# Altium integrated library NSC Logic Clock Clock Support.IntLib: 83 symbols (part 1 of 2)
Pins are listed as number, name and electrical type; pins without a type are passive.

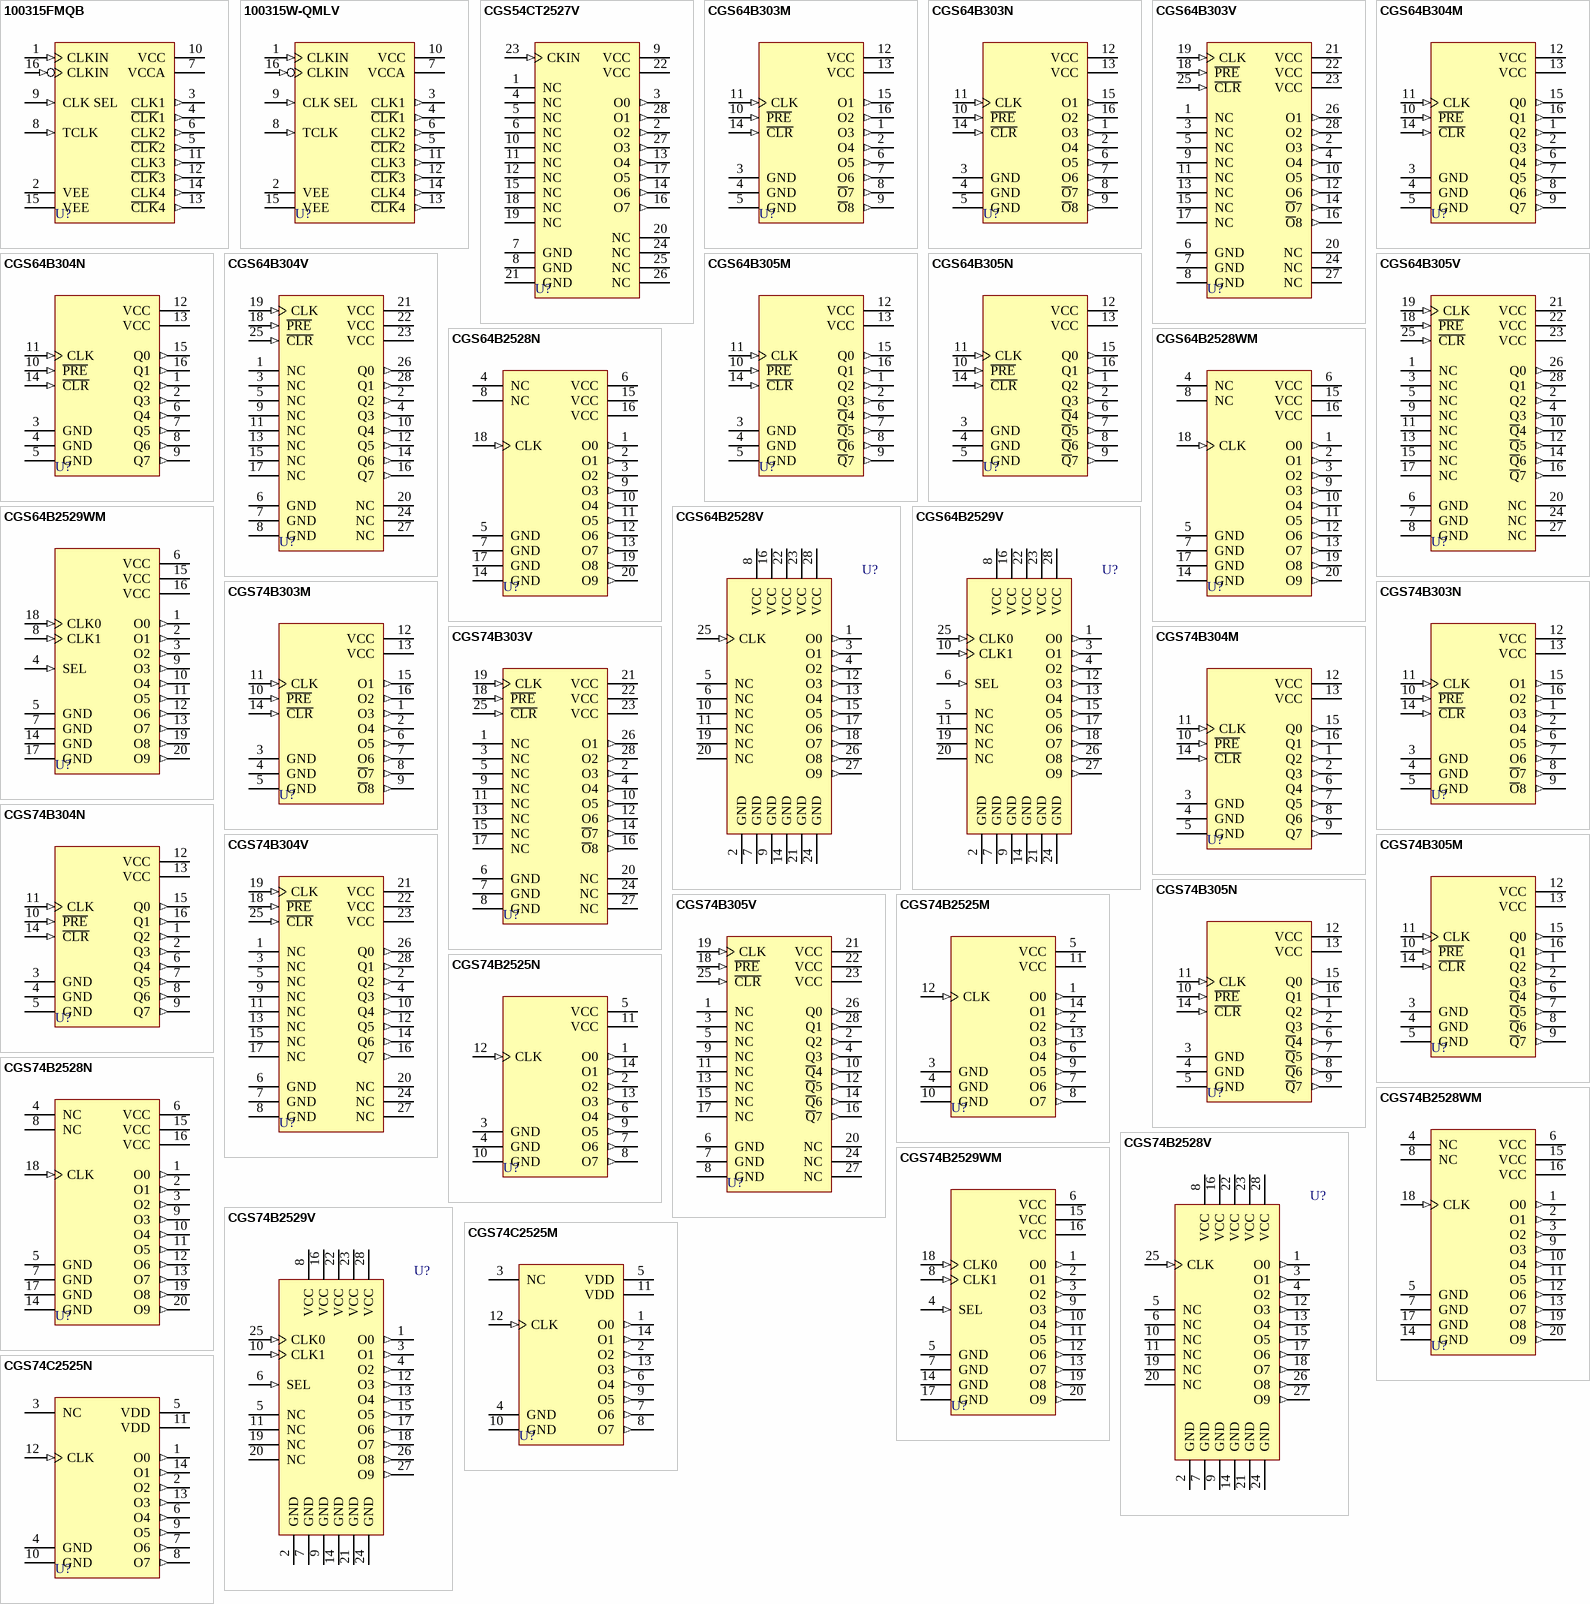
[diagram p0: symbols 100315FMQB to CGS74C2525N]

## 100315FMQB
designator U?
Low-Skew Quad Clock Driver; Published: 15-Apr-2002; LatestRevisionDate: 06-Jun-2005; LatestRevisionNote: Stylized 3D Model Added.; DatasheetVersion: Aug-1998; PackageVersion: 2000; PackageReference: W16A; Publisher: Altium Limited; PackageDescription: DFP; 16 Leads; Body 9.9 x 7.6 mm (LxW max); Pitch 1.27 mm; ComponentLink1Description: Manufacturer Link; ComponentLink1URL: http://www.national.com/; ComponentLink2Description: Datasheet; ComponentLink2URL: http://www.national.com/ds.cgi/10/100315.pdf; ComponentLink3Description: URL Link1; ComponentLink3URL: http://www.national.com/pf/10/100315.html
footprint W16A (DFP; 16 Leads; Body 9.9 x 7.6 mm (LxW max); Pitch 1.27 mm)
3D model W16A (DFP; 16 Leads; Body 9.9 x 7.6 mm (LxW max); Pitch 1.27 mm)
pins: 1 CLKIN (in), 2 VEE (power), 3 CLK1 (out), 4 ~{CLK}1 (out), 5 ~{CLK}2 (out), 6 CLK2 (out), 7 VCCA (power), 8 TCLK (in), 9 CLK SEL (in), 10 VCC (power), 11 CLK3 (out), 12 ~{CLK}3 (out), 13 ~{CLK}4 (out), 14 CLK4 (out), 15 VEE (power), 16 CLKIN (in)

## 100315W-QMLV
designator U?
Low-Skew Quad Clock Driver; Published: 15-Apr-2002; LatestRevisionDate: 06-Jun-2005; LatestRevisionNote: Stylized 3D Model Added.; DatasheetVersion: Aug-1998; PackageVersion: 2000; PackageReference: W16A; Publisher: Altium Limited; PackageDescription: DFP; 16 Leads; Body 9.9 x 7.6 mm (LxW max); Pitch 1.27 mm; ComponentLink1Description: Manufacturer Link; ComponentLink1URL: http://www.national.com/; ComponentLink2Description: Datasheet; ComponentLink2URL: http://www.national.com/ds.cgi/10/100315.pdf; ComponentLink3Description: URL Link1; ComponentLink3URL: http://www.national.com/pf/10/100315.html
footprint W16A (DFP; 16 Leads; Body 9.9 x 7.6 mm (LxW max); Pitch 1.27 mm)
3D model W16A (DFP; 16 Leads; Body 9.9 x 7.6 mm (LxW max); Pitch 1.27 mm)
pins: 1 CLKIN (in), 2 VEE (power), 3 CLK1 (out), 4 ~{CLK}1 (out), 5 ~{CLK}2 (out), 6 CLK2 (out), 7 VCCA (power), 8 TCLK (in), 9 CLK SEL (in), 10 VCC (power), 11 CLK3 (out), 12 ~{CLK}3 (out), 13 ~{CLK}4 (out), 14 CLK4 (out), 15 VEE (power), 16 CLKIN (in)

## CGS54CT2527V
designator U?
1-to-8 Minimum Skew (450 ps) Clock Driver; Published: 15-Apr-2002; LatestRevisionDate: 13-Apr-2006; LatestRevisionNote: IPC-7351 Footprint Added.; DatasheetVersion: Apr-1993; PackageVersion: 2000; PackageReference: V28A; Publisher: Altium Limited; PackageDescription: 28-Pin Leaded Chip Carrier 1.27 mm Pitch; Code_IPC: PLCC-28; ComponentLink1Description: Manufacturer Link; ComponentLink1URL: http://www.national.com/
footprint V28A_N (Leaded Chip Carrier, 28-Leads, Body 11.5x11.5mm, Pitch 1.27mm, IPC Medium Density)
footprint V28A_L (Leaded Chip Carrier, 28-Leads, Body 11.5x11.5mm, Pitch 1.27mm, IPC High Density)
footprint V28A_M (Leaded Chip Carrier, 28-Leads, Body 11.5x11.5mm, Pitch 1.27mm, IPC Low Density)
3D model CGS54CT2527-V28A (28-Pin Leaded Chip Carrier 1.27 mm Pitch)
pins: 1 NC, 2 O2 (out), 3 O0 (out), 4 NC, 5 NC, 6 NC, 7 GND (power), 8 GND (power), 9 VCC (power), 10 NC, 11 NC, 12 NC, 13 O4 (out), 14 O6 (out), 15 NC, 16 O7 (out), 17 O5 (out), 18 NC, 19 NC, 20 NC, 21 GND (power), 22 VCC (power), 23 CKIN (in), 24 NC, 25 NC, 26 NC, 27 O3 (out), 28 O1 (out)

## CGS64B303M
designator U?
Octal Divide-by-2 Skew Clock Driver; ComponentAvailability: Obsolete; Published: 15-Apr-2002; LatestRevisionDate: 13-Apr-2006; LatestRevisionNote: IPC-7351 Footprint Added.; DatasheetVersion: Jul-1993; PackageVersion: 2000; PackageReference: M16A; Publisher: Altium Limited; PackageDescription: 16-Pin Small Outline Integrated Circuit 1.27 mm Pitch; Code_IPC: SOIC127P600-16; ComponentLink1Description: Manufacturer Link; ComponentLink1URL: http://www.national.com/; ComponentLink2Description: Discontinuation Notice; ComponentLink2URL: http://www.national.com/obs/obsolescence.txt
footprint M16A_N (SOIC, 16-Leads, Body 9.9x3.9mm, Pitch 1.27mm, IPC Medium Density)
footprint M16A_L (SOIC, 16-Leads, Body 9.9x3.9mm, Pitch 1.27mm, IPC High Density)
footprint M16A_M (SOIC, 16-Leads, Body 9.9x3.9mm, Pitch 1.27mm, IPC Low Density)
3D model M16A (16-Pin Small Outline Integrated Circuit 1.27 mm Pitch)
pins: 1 O3 (out), 2 O4 (out), 3 GND (power), 4 GND (power), 5 GND (power), 6 O5 (out), 7 O6 (out), 8 ~{O}7 (out), 9 ~{O}8 (out), 10 ~{PRE} (in), 11 CLK (in), 12 VCC (power), 13 VCC (power), 14 ~{CLR} (in), 15 O1 (out), 16 O2 (out)

## CGS64B303N
designator U?
Octal Divide-by-2 Skew Clock Driver; ComponentAvailability: Obsolete; Published: 15-Apr-2002; LatestRevisionDate: 06-Jun-2005; LatestRevisionNote: Stylized 3D Model Added.; DatasheetVersion: Jul-1993; PackageVersion: 2000; PackageReference: N16E; Publisher: Altium Limited; PackageDescription: DIP; 16 Leads; Row Spacing 7.62 mm; Pitch 2.54 mm; ComponentLink1Description: Manufacturer Link; ComponentLink1URL: http://www.national.com/; ComponentLink2Description: Discontinuation Notice; ComponentLink2URL: http://www.national.com/obs/obsolescence.txt
footprint N16E (DIP; 16 Leads; Row Spacing 7.62 mm; Pitch 2.54 mm)
3D model N16E (DIP; 16 Leads; Row Spacing 7.62 mm; Pitch 2.54 mm)
pins: 1 O3 (out), 2 O4 (out), 3 GND (power), 4 GND (power), 5 GND (power), 6 O5 (out), 7 O6 (out), 8 ~{O}7 (out), 9 ~{O}8 (out), 10 ~{PRE} (in), 11 CLK (in), 12 VCC (power), 13 VCC (power), 14 ~{CLR} (in), 15 O1 (out), 16 O2 (out)

## CGS64B303V
designator U?
Octal Divide-by-2 Skew Clock Driver; ComponentAvailability: Obsolete; Published: 15-Apr-2002; LatestRevisionDate: 13-Apr-2006; LatestRevisionNote: IPC-7351 Footprint Added.; DatasheetVersion: Jul-1993; PackageVersion: 2000; PackageReference: V28A; Publisher: Altium Limited; PackageDescription: 28-Pin Leaded Chip Carrier 1.27 mm Pitch; Code_IPC: PLCC-28; ComponentLink1Description: Manufacturer Link; ComponentLink1URL: http://www.national.com/; ComponentLink2Description: Discontinuation Notice; ComponentLink2URL: http://www.national.com/obs/obsolescence.txt
footprint V28A_N (Leaded Chip Carrier, 28-Leads, Body 11.5x11.5mm, Pitch 1.27mm, IPC Medium Density)
footprint V28A_L (Leaded Chip Carrier, 28-Leads, Body 11.5x11.5mm, Pitch 1.27mm, IPC High Density)
footprint V28A_M (Leaded Chip Carrier, 28-Leads, Body 11.5x11.5mm, Pitch 1.27mm, IPC Low Density)
3D model CGS64B303-V28A (28-Pin Leaded Chip Carrier 1.27 mm Pitch)
pins: 1 NC, 2 O3 (out), 3 NC, 4 O4 (out), 5 NC, 6 GND (power), 7 GND (power), 8 GND (power), 9 NC, 10 O5 (out), 11 NC, 12 O6 (out), 13 NC, 14 ~{O}7 (out), 15 NC, 16 ~{O}8 (out), 17 NC, 18 ~{PRE} (in), 19 CLK (in), 20 NC, 21 VCC (power), 22 VCC (power), 23 VCC (power), 24 NC, 25 ~{CLR} (in), 26 O1 (out), 27 NC, 28 O2 (out)

## CGS64B304M
designator U?
Octal Divide-by-2 Skew Clock Driver; ComponentAvailability: Obsolete; Published: 15-Apr-2002; LatestRevisionDate: 13-Apr-2006; LatestRevisionNote: IPC-7351 Footprint Added.; DatasheetVersion: 1995; PackageVersion: 2000; PackageReference: M16A; Publisher: Altium Limited; PackageDescription: 16-Pin Small Outline Integrated Circuit 1.27 mm Pitch; Code_IPC: SOIC127P600-16; ComponentLink1Description: Manufacturer Link; ComponentLink1URL: http://www.national.com/; ComponentLink2Description: Discontinuation Notice; ComponentLink2URL: http://www.national.com/obs/obsolescence.txt
footprint M16A_N (SOIC, 16-Leads, Body 9.9x3.9mm, Pitch 1.27mm, IPC Medium Density)
footprint M16A_L (SOIC, 16-Leads, Body 9.9x3.9mm, Pitch 1.27mm, IPC High Density)
footprint M16A_M (SOIC, 16-Leads, Body 9.9x3.9mm, Pitch 1.27mm, IPC Low Density)
3D model M16A (16-Pin Small Outline Integrated Circuit 1.27 mm Pitch)
pins: 1 Q2 (out), 2 Q3 (out), 3 GND (power), 4 GND (power), 5 GND (power), 6 Q4 (out), 7 Q5 (out), 8 Q6 (out), 9 Q7 (out), 10 ~{PRE} (in), 11 CLK (in), 12 VCC (power), 13 VCC (power), 14 ~{CLR} (in), 15 Q0 (out), 16 Q1 (out)

## CGS64B304N
designator U?
Octal Divide-by-2 Skew Clock Driver; ComponentAvailability: Obsolete; Published: 15-Apr-2002; LatestRevisionDate: 06-Jun-2005; LatestRevisionNote: Stylized 3D Model Added.; DatasheetVersion: 1995; PackageVersion: 2000; PackageReference: N16E; Publisher: Altium Limited; PackageDescription: DIP; 16 Leads; Row Spacing 7.62 mm; Pitch 2.54 mm; ComponentLink1Description: Manufacturer Link; ComponentLink1URL: http://www.national.com/; ComponentLink2Description: Discontinuation Notice; ComponentLink2URL: http://www.national.com/obs/obsolescence.txt
footprint N16E (DIP; 16 Leads; Row Spacing 7.62 mm; Pitch 2.54 mm)
3D model N16E (DIP; 16 Leads; Row Spacing 7.62 mm; Pitch 2.54 mm)
pins: 1 Q2 (out), 2 Q3 (out), 3 GND (power), 4 GND (power), 5 GND (power), 6 Q4 (out), 7 Q5 (out), 8 Q6 (out), 9 Q7 (out), 10 ~{PRE} (in), 11 CLK (in), 12 VCC (power), 13 VCC (power), 14 ~{CLR} (in), 15 Q0 (out), 16 Q1 (out)

## CGS64B304V
designator U?
Octal Divide-by-2 Skew Clock Driver; ComponentAvailability: Obsolete; Published: 15-Apr-2002; LatestRevisionDate: 13-Apr-2006; LatestRevisionNote: IPC-7351 Footprint Added.; DatasheetVersion: 1995; PackageVersion: 2000; PackageReference: V28A; Publisher: Altium Limited; PackageDescription: 28-Pin Leaded Chip Carrier 1.27 mm Pitch; Code_IPC: PLCC-28; ComponentLink1Description: Manufacturer Link; ComponentLink1URL: http://www.national.com/; ComponentLink2Description: Discontinuation Notice; ComponentLink2URL: http://www.national.com/obs/obsolescence.txt
footprint V28A_N (Leaded Chip Carrier, 28-Leads, Body 11.5x11.5mm, Pitch 1.27mm, IPC Medium Density)
footprint V28A_L (Leaded Chip Carrier, 28-Leads, Body 11.5x11.5mm, Pitch 1.27mm, IPC High Density)
footprint V28A_M (Leaded Chip Carrier, 28-Leads, Body 11.5x11.5mm, Pitch 1.27mm, IPC Low Density)
3D model CGS64B304-V28A (28-Pin Leaded Chip Carrier 1.27 mm Pitch)
pins: 1 NC, 2 Q2 (out), 3 NC, 4 Q3 (out), 5 NC, 6 GND (power), 7 GND (power), 8 GND (power), 9 NC, 10 Q4 (out), 11 NC, 12 Q5 (out), 13 NC, 14 Q6 (out), 15 NC, 16 Q7 (out), 17 NC, 18 ~{PRE} (in), 19 CLK (in), 20 NC, 21 VCC (power), 22 VCC (power), 23 VCC (power), 24 NC, 25 ~{CLR} (in), 26 Q0 (out), 27 NC, 28 Q1 (out)

## CGS64B305M
designator U?
Octal Divide-by-2 Skew Clock Driver; ComponentAvailability: Obsolete; Published: 15-Apr-2002; LatestRevisionDate: 13-Apr-2006; LatestRevisionNote: IPC-7351 Footprint Added.; DatasheetVersion: 1995; PackageVersion: 2000; PackageReference: M16A; Publisher: Altium Limited; PackageDescription: 16-Pin Small Outline Integrated Circuit 1.27 mm Pitch; Code_IPC: SOIC127P600-16; ComponentLink1Description: Manufacturer Link; ComponentLink1URL: http://www.national.com/; ComponentLink2Description: Discontinuation Notice; ComponentLink2URL: http://www.national.com/obs/obsolescence.txt
footprint M16A_N (SOIC, 16-Leads, Body 9.9x3.9mm, Pitch 1.27mm, IPC Medium Density)
footprint M16A_L (SOIC, 16-Leads, Body 9.9x3.9mm, Pitch 1.27mm, IPC High Density)
footprint M16A_M (SOIC, 16-Leads, Body 9.9x3.9mm, Pitch 1.27mm, IPC Low Density)
3D model M16A (16-Pin Small Outline Integrated Circuit 1.27 mm Pitch)
pins: 1 Q2 (out), 2 Q3 (out), 3 GND (power), 4 GND (power), 5 GND (power), 6 ~{Q}4 (out), 7 ~{Q}5 (out), 8 ~{Q}6 (out), 9 ~{Q}7 (out), 10 ~{PRE} (in), 11 CLK (in), 12 VCC (power), 13 VCC (power), 14 ~{CLR} (in), 15 Q0 (out), 16 Q1 (out)

## CGS64B305N
designator U?
Octal Divide-by-2 Skew Clock Driver; ComponentAvailability: Obsolete; Published: 15-Apr-2002; LatestRevisionDate: 06-Jun-2005; LatestRevisionNote: Stylized 3D Model Added.; DatasheetVersion: 1995; PackageVersion: 2000; PackageReference: N16E; Publisher: Altium Limited; PackageDescription: DIP; 16 Leads; Row Spacing 7.62 mm; Pitch 2.54 mm; ComponentLink1Description: Manufacturer Link; ComponentLink1URL: http://www.national.com/; ComponentLink2Description: Discontinuation Notice; ComponentLink2URL: http://www.national.com/obs/obsolescence.txt
footprint N16E (DIP; 16 Leads; Row Spacing 7.62 mm; Pitch 2.54 mm)
3D model N16E (DIP; 16 Leads; Row Spacing 7.62 mm; Pitch 2.54 mm)
pins: 1 Q2 (out), 2 Q3 (out), 3 GND (power), 4 GND (power), 5 GND (power), 6 ~{Q}4 (out), 7 ~{Q}5 (out), 8 ~{Q}6 (out), 9 ~{Q}7 (out), 10 ~{PRE} (in), 11 CLK (in), 12 VCC (power), 13 VCC (power), 14 ~{CLR} (in), 15 Q0 (out), 16 Q1 (out)

## CGS64B305V
designator U?
Octal Divide-by-2 Skew Clock Driver; ComponentAvailability: Obsolete; Published: 15-Apr-2002; LatestRevisionDate: 13-Apr-2006; LatestRevisionNote: IPC-7351 Footprint Added.; DatasheetVersion: 1995; PackageVersion: 2000; PackageReference: V28A; Publisher: Altium Limited; PackageDescription: 28-Pin Leaded Chip Carrier 1.27 mm Pitch; Code_IPC: PLCC-28; ComponentLink1Description: Manufacturer Link; ComponentLink1URL: http://www.national.com/; ComponentLink2Description: Discontinuation Notice; ComponentLink2URL: http://www.national.com/obs/obsolescence.txt
footprint V28A_N (Leaded Chip Carrier, 28-Leads, Body 11.5x11.5mm, Pitch 1.27mm, IPC Medium Density)
footprint V28A_L (Leaded Chip Carrier, 28-Leads, Body 11.5x11.5mm, Pitch 1.27mm, IPC High Density)
footprint V28A_M (Leaded Chip Carrier, 28-Leads, Body 11.5x11.5mm, Pitch 1.27mm, IPC Low Density)
3D model CGS64B305-V28A (28-Pin Leaded Chip Carrier 1.27 mm Pitch)
pins: 1 NC, 2 Q2 (out), 3 NC, 4 Q3 (out), 5 NC, 6 GND (power), 7 GND (power), 8 GND (power), 9 NC, 10 ~{Q}4 (out), 11 NC, 12 ~{Q}5 (out), 13 NC, 14 ~{Q}6 (out), 15 NC, 16 ~{Q}7 (out), 17 NC, 18 ~{PRE} (in), 19 CLK (in), 20 NC, 21 VCC (power), 22 VCC (power), 23 VCC (power), 24 NC, 25 ~{CLR} (in), 26 Q0 (out), 27 NC, 28 Q1 (out)

## CGS64B2528N
designator U?
450 ps 1 to 10 Minimum Skew Clock Driver; ComponentAvailability: Obsolete; Published: 15-Apr-2002; LatestRevisionDate: 06-Jun-2005; LatestRevisionNote: Stylized 3D Model Added.; DatasheetVersion: Sep-1995; PackageVersion: 2000; PackageReference: N20A; Publisher: Altium Limited; PackageDescription: DIP; 20 Leads; Row Spacing 7.62 mm; Pitch 2.54 mm; Code_JEDEC: MS-001-AD; ComponentLink1Description: Manufacturer Link; ComponentLink1URL: http://www.national.com/; ComponentLink2Description: Discontinuation Notice; ComponentLink2URL: http://www.national.com/obs/obsolescence.txt
footprint N20A (DIP; 20 Leads; Row Spacing 7.62 mm; Pitch 2.54 mm)
3D model N20A (DIP; 20 Leads; Row Spacing 7.62 mm; Pitch 2.54 mm)
pins: 1 O0 (out), 2 O1 (out), 3 O2 (out), 4 NC, 5 GND (power), 6 VCC (power), 7 GND (power), 8 NC, 9 O3 (out), 10 O4 (out), 11 O5 (out), 12 O6 (out), 13 O7 (out), 14 GND (power), 15 VCC (power), 16 VCC (power), 17 GND (power), 18 CLK (in), 19 O8 (out), 20 O9 (out)

## CGS64B2528V
designator U?
450 ps 1 to 10 Minimum Skew Clock Driver; ComponentAvailability: Obsolete; Published: 15-Apr-2002; LatestRevisionDate: 13-Apr-2006; LatestRevisionNote: IPC-7351 Footprint Added.; DatasheetVersion: Sep-1995; PackageVersion: 2000; PackageReference: V28A; Publisher: Altium Limited; PackageDescription: 28-Pin Leaded Chip Carrier 1.27 mm Pitch; Code_IPC: PLCC-28; ComponentLink1Description: Manufacturer Link; ComponentLink1URL: http://www.national.com/; ComponentLink2Description: Discontinuation Notice; ComponentLink2URL: http://www.national.com/obs/obsolescence.txt
footprint V28A_N (Leaded Chip Carrier, 28-Leads, Body 11.5x11.5mm, Pitch 1.27mm, IPC Medium Density)
footprint V28A_L (Leaded Chip Carrier, 28-Leads, Body 11.5x11.5mm, Pitch 1.27mm, IPC High Density)
footprint V28A_M (Leaded Chip Carrier, 28-Leads, Body 11.5x11.5mm, Pitch 1.27mm, IPC Low Density)
3D model CGS64B2528-V28A (28-Pin Leaded Chip Carrier 1.27 mm Pitch)
pins: 1 O0 (out), 2 GND (power), 3 O1 (out), 4 O2 (out), 5 NC, 6 NC, 7 GND (power), 8 VCC (power), 9 GND (power), 10 NC, 11 NC, 12 O3 (out), 13 O4 (out), 14 GND (power), 15 O5 (out), 16 VCC (power), 17 O6 (out), 18 O7 (out), 19 NC, 20 NC, 21 GND (power), 22 VCC (power), 23 VCC (power), 24 GND (power), 25 CLK (in), 26 O8 (out), 27 O9 (out), 28 VCC (power)

## CGS64B2528WM
designator U?
450 ps 1 to 10 Minimum Skew Clock Driver; ComponentAvailability: Obsolete; Published: 15-Apr-2002; LatestRevisionDate: 13-Apr-2006; LatestRevisionNote: IPC-7351 Footprint Added.; DatasheetVersion: Sep-1995; PackageVersion: 2000; PackageReference: M20B; Publisher: Altium Limited; PackageDescription: 20-Pin Small Outline Integrated Circuit 1.27 mm Pitch; Code_JEDEC: MS-013-AC; Code_IPC: SOIC127P1030-20; ComponentLink1Description: Manufacturer Link; ComponentLink1URL: http://www.national.com/; ComponentLink2Description: Discontinuation Notice; ComponentLink2URL: http://www.national.com/obs/obsolescence.txt
footprint M20B_N (SOIC, 20-Leads, Body 12.8x7.5mm, Pitch 1.27mm, IPC Medium Density)
footprint M20B_L (SOIC, 20-Leads, Body 12.8x7.5mm, Pitch 1.27mm, IPC High Density)
footprint M20B_M (SOIC, 20-Leads, Body 12.8x7.5mm, Pitch 1.27mm, IPC Low Density)
3D model M20B (20-Pin Small Outline Integrated Circuit 1.27 mm Pitch)
pins: 1 O0 (out), 2 O1 (out), 3 O2 (out), 4 NC, 5 GND (power), 6 VCC (power), 7 GND (power), 8 NC, 9 O3 (out), 10 O4 (out), 11 O5 (out), 12 O6 (out), 13 O7 (out), 14 GND (power), 15 VCC (power), 16 VCC (power), 17 GND (power), 18 CLK (in), 19 O8 (out), 20 O9 (out)

## CGS64B2529V
designator U?
500 ps 2 to 10 Minimum Skew Clock Driver; Published: 15-Apr-2002; LatestRevisionDate: 13-Apr-2006; LatestRevisionNote: IPC-7351 Footprint Added.; DatasheetVersion: Sep-1995; PackageVersion: 2000; PackageReference: V28A; Publisher: Altium Limited; PackageDescription: 28-Pin Leaded Chip Carrier 1.27 mm Pitch; Code_IPC: PLCC-28; ComponentLink1Description: Manufacturer Link; ComponentLink1URL: http://www.national.com/
footprint V28A_N (Leaded Chip Carrier, 28-Leads, Body 11.5x11.5mm, Pitch 1.27mm, IPC Medium Density)
footprint V28A_L (Leaded Chip Carrier, 28-Leads, Body 11.5x11.5mm, Pitch 1.27mm, IPC High Density)
footprint V28A_M (Leaded Chip Carrier, 28-Leads, Body 11.5x11.5mm, Pitch 1.27mm, IPC Low Density)
3D model CGS64B2529-V28A (28-Pin Leaded Chip Carrier 1.27 mm Pitch)
pins: 1 O0 (out), 2 GND (power), 3 O1 (out), 4 O2 (out), 5 NC, 6 SEL (in), 7 GND (power), 8 VCC (power), 9 GND (power), 10 CLK1 (in), 11 NC, 12 O3 (out), 13 O4 (out), 14 GND (power), 15 O5 (out), 16 VCC (power), 17 O6 (out), 18 O7 (out), 19 NC, 20 NC, 21 GND (power), 22 VCC (power), 23 VCC (power), 24 GND (power), 25 CLK0 (in), 26 O8 (out), 27 O9 (out), 28 VCC (power)

## CGS64B2529WM
designator U?
500 ps 2 to 10 Minimum Skew Clock Driver; ComponentAvailability: Obsolete; Published: 15-Apr-2002; LatestRevisionDate: 13-Apr-2006; LatestRevisionNote: IPC-7351 Footprint Added.; DatasheetVersion: Sep-1995; PackageVersion: 2000; PackageReference: M20B; Publisher: Altium Limited; PackageDescription: 20-Pin Small Outline Integrated Circuit 1.27 mm Pitch; Code_JEDEC: MS-013-AC; Code_IPC: SOIC127P1030-20; ComponentLink1Description: Manufacturer Link; ComponentLink1URL: http://www.national.com/; ComponentLink2Description: Discontinuation Notice; ComponentLink2URL: http://www.national.com/obs/obsolescence.txt
footprint M20B_N (SOIC, 20-Leads, Body 12.8x7.5mm, Pitch 1.27mm, IPC Medium Density)
footprint M20B_L (SOIC, 20-Leads, Body 12.8x7.5mm, Pitch 1.27mm, IPC High Density)
footprint M20B_M (SOIC, 20-Leads, Body 12.8x7.5mm, Pitch 1.27mm, IPC Low Density)
3D model M20B (20-Pin Small Outline Integrated Circuit 1.27 mm Pitch)
pins: 1 O0 (out), 2 O1 (out), 3 O2 (out), 4 SEL (in), 5 GND (power), 6 VCC (power), 7 GND (power), 8 CLK1 (in), 9 O3 (out), 10 O4 (out), 11 O5 (out), 12 O6 (out), 13 O7 (out), 14 GND (power), 15 VCC (power), 16 VCC (power), 17 GND (power), 18 CLK0 (in), 19 O8 (out), 20 O9 (out)

## CGS74B303M
designator U?
Octal Divide-by-2 Skew Clock Driver; ComponentAvailability: Obsolete; Published: 15-Apr-2002; LatestRevisionDate: 13-Apr-2006; LatestRevisionNote: IPC-7351 Footprint Added.; DatasheetVersion: Jul-1993; PackageVersion: 2000; PackageReference: M16A; Publisher: Altium Limited; PackageDescription: 16-Pin Small Outline Integrated Circuit 1.27 mm Pitch; Code_IPC: SOIC127P600-16; ComponentLink1Description: Manufacturer Link; ComponentLink1URL: http://www.national.com/; ComponentLink2Description: Discontinuation Notice; ComponentLink2URL: http://www.national.com/obs/obsolescence.txt
footprint M16A_N (SOIC, 16-Leads, Body 9.9x3.9mm, Pitch 1.27mm, IPC Medium Density)
footprint M16A_L (SOIC, 16-Leads, Body 9.9x3.9mm, Pitch 1.27mm, IPC High Density)
footprint M16A_M (SOIC, 16-Leads, Body 9.9x3.9mm, Pitch 1.27mm, IPC Low Density)
3D model M16A (16-Pin Small Outline Integrated Circuit 1.27 mm Pitch)
pins: 1 O3 (out), 2 O4 (out), 3 GND (power), 4 GND (power), 5 GND (power), 6 O5 (out), 7 O6 (out), 8 ~{O}7 (out), 9 ~{O}8 (out), 10 ~{PRE} (in), 11 CLK (in), 12 VCC (power), 13 VCC (power), 14 ~{CLR} (in), 15 O1 (out), 16 O2 (out)

## CGS74B303N
designator U?
Octal Divide-by-2 Skew Clock Driver; ComponentAvailability: Obsolete; Published: 15-Apr-2002; LatestRevisionDate: 06-Jun-2005; LatestRevisionNote: Stylized 3D Model Added.; DatasheetVersion: Jul-1993; PackageVersion: 2000; PackageReference: N16E; Publisher: Altium Limited; PackageDescription: DIP; 16 Leads; Row Spacing 7.62 mm; Pitch 2.54 mm; ComponentLink1Description: Manufacturer Link; ComponentLink1URL: http://www.national.com/; ComponentLink2Description: Discontinuation Notice; ComponentLink2URL: http://www.national.com/obs/obsolescence.txt
footprint N16E (DIP; 16 Leads; Row Spacing 7.62 mm; Pitch 2.54 mm)
3D model N16E (DIP; 16 Leads; Row Spacing 7.62 mm; Pitch 2.54 mm)
pins: 1 O3 (out), 2 O4 (out), 3 GND (power), 4 GND (power), 5 GND (power), 6 O5 (out), 7 O6 (out), 8 ~{O}7 (out), 9 ~{O}8 (out), 10 ~{PRE} (in), 11 CLK (in), 12 VCC (power), 13 VCC (power), 14 ~{CLR} (in), 15 O1 (out), 16 O2 (out)

## CGS74B303V
designator U?
Octal Divide-by-2 Skew Clock Driver; ComponentAvailability: Obsolete; Published: 15-Apr-2002; LatestRevisionDate: 13-Apr-2006; LatestRevisionNote: IPC-7351 Footprint Added.; DatasheetVersion: Jul-1993; PackageVersion: 2000; PackageReference: V28A; Publisher: Altium Limited; PackageDescription: 28-Pin Leaded Chip Carrier 1.27 mm Pitch; Code_IPC: PLCC-28; ComponentLink1Description: Manufacturer Link; ComponentLink1URL: http://www.national.com/; ComponentLink2Description: Discontinuation Notice; ComponentLink2URL: http://www.national.com/obs/obsolescence.txt
footprint V28A_N (Leaded Chip Carrier, 28-Leads, Body 11.5x11.5mm, Pitch 1.27mm, IPC Medium Density)
footprint V28A_L (Leaded Chip Carrier, 28-Leads, Body 11.5x11.5mm, Pitch 1.27mm, IPC High Density)
footprint V28A_M (Leaded Chip Carrier, 28-Leads, Body 11.5x11.5mm, Pitch 1.27mm, IPC Low Density)
3D model CGS74B303-V28A (28-Pin Leaded Chip Carrier 1.27 mm Pitch)
pins: 1 NC, 2 O3 (out), 3 NC, 4 O4 (out), 5 NC, 6 GND (power), 7 GND (power), 8 GND (power), 9 NC, 10 O5 (out), 11 NC, 12 O6 (out), 13 NC, 14 ~{O}7 (out), 15 NC, 16 ~{O}8 (out), 17 NC, 18 ~{PRE} (in), 19 CLK (in), 20 NC, 21 VCC (power), 22 VCC (power), 23 VCC (power), 24 NC, 25 ~{CLR} (in), 26 O1 (out), 27 NC, 28 O2 (out)

## CGS74B304M
designator U?
Octal Divide-by-2 Skew Clock Driver; ComponentAvailability: Obsolete; Published: 15-Apr-2002; LatestRevisionDate: 13-Apr-2006; LatestRevisionNote: IPC-7351 Footprint Added.; DatasheetVersion: 1995; PackageVersion: 2000; PackageReference: M16A; Publisher: Altium Limited; PackageDescription: 16-Pin Small Outline Integrated Circuit 1.27 mm Pitch; Code_IPC: SOIC127P600-16; ComponentLink1Description: Manufacturer Link; ComponentLink1URL: http://www.national.com/; ComponentLink2Description: Discontinuation Notice; ComponentLink2URL: http://www.national.com/obs/obsolescence.txt
footprint M16A_N (SOIC, 16-Leads, Body 9.9x3.9mm, Pitch 1.27mm, IPC Medium Density)
footprint M16A_L (SOIC, 16-Leads, Body 9.9x3.9mm, Pitch 1.27mm, IPC High Density)
footprint M16A_M (SOIC, 16-Leads, Body 9.9x3.9mm, Pitch 1.27mm, IPC Low Density)
3D model M16A (16-Pin Small Outline Integrated Circuit 1.27 mm Pitch)
pins: 1 Q2 (out), 2 Q3 (out), 3 GND (power), 4 GND (power), 5 GND (power), 6 Q4 (out), 7 Q5 (out), 8 Q6 (out), 9 Q7 (out), 10 ~{PRE} (in), 11 CLK (in), 12 VCC (power), 13 VCC (power), 14 ~{CLR} (in), 15 Q0 (out), 16 Q1 (out)

## CGS74B304N
designator U?
Octal Divide-by-2 Skew Clock Driver; ComponentAvailability: Obsolete; Published: 15-Apr-2002; LatestRevisionDate: 06-Jun-2005; LatestRevisionNote: Stylized 3D Model Added.; DatasheetVersion: 1995; PackageVersion: 2000; PackageReference: N16E; Publisher: Altium Limited; PackageDescription: DIP; 16 Leads; Row Spacing 7.62 mm; Pitch 2.54 mm; ComponentLink1Description: Manufacturer Link; ComponentLink1URL: http://www.national.com/; ComponentLink2Description: Discontinuation Notice; ComponentLink2URL: http://www.national.com/obs/obsolescence.txt
footprint N16E (DIP; 16 Leads; Row Spacing 7.62 mm; Pitch 2.54 mm)
3D model N16E (DIP; 16 Leads; Row Spacing 7.62 mm; Pitch 2.54 mm)
pins: 1 Q2 (out), 2 Q3 (out), 3 GND (power), 4 GND (power), 5 GND (power), 6 Q4 (out), 7 Q5 (out), 8 Q6 (out), 9 Q7 (out), 10 ~{PRE} (in), 11 CLK (in), 12 VCC (power), 13 VCC (power), 14 ~{CLR} (in), 15 Q0 (out), 16 Q1 (out)

## CGS74B304V
designator U?
Octal Divide-by-2 Skew Clock Driver; ComponentAvailability: Obsolete; Published: 15-Apr-2002; LatestRevisionDate: 13-Apr-2006; LatestRevisionNote: IPC-7351 Footprint Added.; DatasheetVersion: 1995; PackageVersion: 2000; PackageReference: V28A; Publisher: Altium Limited; PackageDescription: 28-Pin Leaded Chip Carrier 1.27 mm Pitch; Code_IPC: PLCC-28; ComponentLink1Description: Manufacturer Link; ComponentLink1URL: http://www.national.com/; ComponentLink2Description: Discontinuation Notice; ComponentLink2URL: http://www.national.com/obs/obsolescence.txt
footprint V28A_N (Leaded Chip Carrier, 28-Leads, Body 11.5x11.5mm, Pitch 1.27mm, IPC Medium Density)
footprint V28A_L (Leaded Chip Carrier, 28-Leads, Body 11.5x11.5mm, Pitch 1.27mm, IPC High Density)
footprint V28A_M (Leaded Chip Carrier, 28-Leads, Body 11.5x11.5mm, Pitch 1.27mm, IPC Low Density)
3D model CGS74B304-V28A (28-Pin Leaded Chip Carrier 1.27 mm Pitch)
pins: 1 NC, 2 Q2 (out), 3 NC, 4 Q3 (out), 5 NC, 6 GND (power), 7 GND (power), 8 GND (power), 9 NC, 10 Q4 (out), 11 NC, 12 Q5 (out), 13 NC, 14 Q6 (out), 15 NC, 16 Q7 (out), 17 NC, 18 ~{PRE} (in), 19 CLK (in), 20 NC, 21 VCC (power), 22 VCC (power), 23 VCC (power), 24 NC, 25 ~{CLR} (in), 26 Q0 (out), 27 NC, 28 Q1 (out)

## CGS74B305M
designator U?
Octal Divide-by-2 Skew Clock Driver; ComponentAvailability: Obsolete; Published: 15-Apr-2002; LatestRevisionDate: 13-Apr-2006; LatestRevisionNote: IPC-7351 Footprint Added.; DatasheetVersion: 1995; PackageVersion: 2000; PackageReference: M16A; Publisher: Altium Limited; PackageDescription: 16-Pin Small Outline Integrated Circuit 1.27 mm Pitch; Code_IPC: SOIC127P600-16; ComponentLink1Description: Manufacturer Link; ComponentLink1URL: http://www.national.com/; ComponentLink2Description: Discontinuation Notice; ComponentLink2URL: http://www.national.com/obs/obsolescence.txt
footprint M16A_N (SOIC, 16-Leads, Body 9.9x3.9mm, Pitch 1.27mm, IPC Medium Density)
footprint M16A_L (SOIC, 16-Leads, Body 9.9x3.9mm, Pitch 1.27mm, IPC High Density)
footprint M16A_M (SOIC, 16-Leads, Body 9.9x3.9mm, Pitch 1.27mm, IPC Low Density)
3D model M16A (16-Pin Small Outline Integrated Circuit 1.27 mm Pitch)
pins: 1 Q2 (out), 2 Q3 (out), 3 GND (power), 4 GND (power), 5 GND (power), 6 ~{Q}4 (out), 7 ~{Q}5 (out), 8 ~{Q}6 (out), 9 ~{Q}7 (out), 10 ~{PRE} (in), 11 CLK (in), 12 VCC (power), 13 VCC (power), 14 ~{CLR} (in), 15 Q0 (out), 16 Q1 (out)

## CGS74B305N
designator U?
Octal Divide-by-2 Skew Clock Driver; ComponentAvailability: Obsolete; Published: 15-Apr-2002; LatestRevisionDate: 06-Jun-2005; LatestRevisionNote: Stylized 3D Model Added.; DatasheetVersion: 1995; PackageVersion: 2000; PackageReference: N16E; Publisher: Altium Limited; PackageDescription: DIP; 16 Leads; Row Spacing 7.62 mm; Pitch 2.54 mm; ComponentLink1Description: Manufacturer Link; ComponentLink1URL: http://www.national.com/; ComponentLink2Description: Discontinuation Notice; ComponentLink2URL: http://www.national.com/obs/obsolescence.txt
footprint N16E (DIP; 16 Leads; Row Spacing 7.62 mm; Pitch 2.54 mm)
3D model N16E (DIP; 16 Leads; Row Spacing 7.62 mm; Pitch 2.54 mm)
pins: 1 Q2 (out), 2 Q3 (out), 3 GND (power), 4 GND (power), 5 GND (power), 6 ~{Q}4 (out), 7 ~{Q}5 (out), 8 ~{Q}6 (out), 9 ~{Q}7 (out), 10 ~{PRE} (in), 11 CLK (in), 12 VCC (power), 13 VCC (power), 14 ~{CLR} (in), 15 Q0 (out), 16 Q1 (out)

## CGS74B305V
designator U?
Octal Divide-by-2 Skew Clock Driver; ComponentAvailability: Obsolete; Published: 15-Apr-2002; LatestRevisionDate: 13-Apr-2006; LatestRevisionNote: IPC-7351 Footprint Added.; DatasheetVersion: 1995; PackageVersion: 2000; PackageReference: V28A; Publisher: Altium Limited; PackageDescription: 28-Pin Leaded Chip Carrier 1.27 mm Pitch; Code_IPC: PLCC-28; ComponentLink1Description: Manufacturer Link; ComponentLink1URL: http://www.national.com/; ComponentLink2Description: Discontinuation Notice; ComponentLink2URL: http://www.national.com/obs/obsolescence.txt
footprint V28A_N (Leaded Chip Carrier, 28-Leads, Body 11.5x11.5mm, Pitch 1.27mm, IPC Medium Density)
footprint V28A_L (Leaded Chip Carrier, 28-Leads, Body 11.5x11.5mm, Pitch 1.27mm, IPC High Density)
footprint V28A_M (Leaded Chip Carrier, 28-Leads, Body 11.5x11.5mm, Pitch 1.27mm, IPC Low Density)
3D model CGS74B305-V28A (28-Pin Leaded Chip Carrier 1.27 mm Pitch)
pins: 1 NC, 2 Q2 (out), 3 NC, 4 Q3 (out), 5 NC, 6 GND (power), 7 GND (power), 8 GND (power), 9 NC, 10 ~{Q}4 (out), 11 NC, 12 ~{Q}5 (out), 13 NC, 14 ~{Q}6 (out), 15 NC, 16 ~{Q}7 (out), 17 NC, 18 ~{PRE} (in), 19 CLK (in), 20 NC, 21 VCC (power), 22 VCC (power), 23 VCC (power), 24 NC, 25 ~{CLR} (in), 26 Q0 (out), 27 NC, 28 Q1 (out)

## CGS74B2525M
designator U?
1-to-8 Minimum Skew Clock Driver; ComponentAvailability: Obsolete; Published: 15-Apr-2002; LatestRevisionDate: 13-Apr-2006; LatestRevisionNote: IPC-7351 Footprint Added.; DatasheetVersion: Sep-1995; PackageVersion: 2000; PackageReference: M14A; Publisher: Altium Limited; PackageDescription: 14-Pin Small Outline Integrated Circuit 1.27 mm Pitch; Code_IPC: SOIC127P600-14; ComponentLink1Description: Manufacturer Link; ComponentLink1URL: http://www.national.com/; ComponentLink2Description: Discontinuation Notice; ComponentLink2URL: http://www.national.com/obs/obsolescence.txt
footprint M14A_N (SOIC, 14-Leads, Body 8.6x3.9mm, Pitch 1.27mm, IPC Medium Density)
footprint M14A_L (SOIC, 14-Leads, Body 8.6x3.9mm, Pitch 1.27mm, IPC High Density)
footprint M14A_M (SOIC, 14-Leads, Body 8.6x3.9mm, Pitch 1.27mm, IPC Low Density)
3D model M14A (14-Pin Small Outline Integrated Circuit 1.27 mm Pitch)
pins: 1 O0 (out), 2 O2 (out), 3 GND (power), 4 GND (power), 5 VCC (power), 6 O4 (out), 7 O6 (out), 8 O7 (out), 9 O5 (out), 10 GND (power), 11 VCC (power), 12 CLK (in), 13 O3 (out), 14 O1 (out)

## CGS74B2525N
designator U?
1-to-8 Minimum Skew Clock Driver; ComponentAvailability: Obsolete; Published: 15-Apr-2002; LatestRevisionDate: 06-Jun-2005; LatestRevisionNote: Stylized 3D Model Added.; DatasheetVersion: Sep-1995; PackageVersion: 2000; PackageReference: N14A; Publisher: Altium Limited; PackageDescription: DIP; 14 Leads; Row Spacing 7.62 mm; Pitch 2.54 mm; ComponentLink1Description: Manufacturer Link; ComponentLink1URL: http://www.national.com/; ComponentLink2Description: Discontinuation Notice; ComponentLink2URL: http://www.national.com/obs/obsolescence.txt
footprint N14A (DIP; 14 Leads; Row Spacing 7.62 mm; Pitch 2.54 mm)
3D model N14A (DIP; 14 Leads; Row Spacing 7.62 mm; Pitch 2.54 mm)
pins: 1 O0 (out), 2 O2 (out), 3 GND (power), 4 GND (power), 5 VCC (power), 6 O4 (out), 7 O6 (out), 8 O7 (out), 9 O5 (out), 10 GND (power), 11 VCC (power), 12 CLK (in), 13 O3 (out), 14 O1 (out)

## CGS74B2528N
designator U?
450 ps 1 to 10 Minimum Skew Clock Driver; ComponentAvailability: Obsolete; Published: 15-Apr-2002; LatestRevisionDate: 06-Jun-2005; LatestRevisionNote: Stylized 3D Model Added.; DatasheetVersion: Sep-1995; PackageVersion: 2000; PackageReference: N20A; Publisher: Altium Limited; PackageDescription: DIP; 20 Leads; Row Spacing 7.62 mm; Pitch 2.54 mm; Code_JEDEC: MS-001-AD; ComponentLink1Description: Manufacturer Link; ComponentLink1URL: http://www.national.com/; ComponentLink2Description: Discontinuation Notice; ComponentLink2URL: http://www.national.com/obs/obsolescence.txt
footprint N20A (DIP; 20 Leads; Row Spacing 7.62 mm; Pitch 2.54 mm)
3D model N20A (DIP; 20 Leads; Row Spacing 7.62 mm; Pitch 2.54 mm)
pins: 1 O0 (out), 2 O1 (out), 3 O2 (out), 4 NC, 5 GND (power), 6 VCC (power), 7 GND (power), 8 NC, 9 O3 (out), 10 O4 (out), 11 O5 (out), 12 O6 (out), 13 O7 (out), 14 GND (power), 15 VCC (power), 16 VCC (power), 17 GND (power), 18 CLK (in), 19 O8 (out), 20 O9 (out)

## CGS74B2528V
designator U?
450 ps 1 to 10 Minimum Skew Clock Driver; ComponentAvailability: Obsolete; Published: 15-Apr-2002; LatestRevisionDate: 13-Apr-2006; LatestRevisionNote: IPC-7351 Footprint Added.; DatasheetVersion: Sep-1995; PackageVersion: 2000; PackageReference: V28A; Publisher: Altium Limited; PackageDescription: 28-Pin Leaded Chip Carrier 1.27 mm Pitch; Code_IPC: PLCC-28; ComponentLink1Description: Manufacturer Link; ComponentLink1URL: http://www.national.com/; ComponentLink2Description: Discontinuation Notice; ComponentLink2URL: http://www.national.com/obs/obsolescence.txt
footprint V28A_N (Leaded Chip Carrier, 28-Leads, Body 11.5x11.5mm, Pitch 1.27mm, IPC Medium Density)
footprint V28A_L (Leaded Chip Carrier, 28-Leads, Body 11.5x11.5mm, Pitch 1.27mm, IPC High Density)
footprint V28A_M (Leaded Chip Carrier, 28-Leads, Body 11.5x11.5mm, Pitch 1.27mm, IPC Low Density)
3D model CGS74B2528-V28A (28-Pin Leaded Chip Carrier 1.27 mm Pitch)
pins: 1 O0 (out), 2 GND (power), 3 O1 (out), 4 O2 (out), 5 NC, 6 NC, 7 GND (power), 8 VCC (power), 9 GND (power), 10 NC, 11 NC, 12 O3 (out), 13 O4 (out), 14 GND (power), 15 O5 (out), 16 VCC (power), 17 O6 (out), 18 O7 (out), 19 NC, 20 NC, 21 GND (power), 22 VCC (power), 23 VCC (power), 24 GND (power), 25 CLK (in), 26 O8 (out), 27 O9 (out), 28 VCC (power)

## CGS74B2528WM
designator U?
450 ps 1 to 10 Minimum Skew Clock Driver; ComponentAvailability: Obsolete; Published: 15-Apr-2002; LatestRevisionDate: 13-Apr-2006; LatestRevisionNote: IPC-7351 Footprint Added.; DatasheetVersion: Sep-1995; PackageVersion: 2000; PackageReference: M20B; Publisher: Altium Limited; PackageDescription: 20-Pin Small Outline Integrated Circuit 1.27 mm Pitch; Code_JEDEC: MS-013-AC; Code_IPC: SOIC127P1030-20; ComponentLink1Description: Manufacturer Link; ComponentLink1URL: http://www.national.com/; ComponentLink2Description: Discontinuation Notice; ComponentLink2URL: http://www.national.com/obs/obsolescence.txt
footprint M20B_N (SOIC, 20-Leads, Body 12.8x7.5mm, Pitch 1.27mm, IPC Medium Density)
footprint M20B_L (SOIC, 20-Leads, Body 12.8x7.5mm, Pitch 1.27mm, IPC High Density)
footprint M20B_M (SOIC, 20-Leads, Body 12.8x7.5mm, Pitch 1.27mm, IPC Low Density)
3D model M20B (20-Pin Small Outline Integrated Circuit 1.27 mm Pitch)
pins: 1 O0 (out), 2 O1 (out), 3 O2 (out), 4 NC, 5 GND (power), 6 VCC (power), 7 GND (power), 8 NC, 9 O3 (out), 10 O4 (out), 11 O5 (out), 12 O6 (out), 13 O7 (out), 14 GND (power), 15 VCC (power), 16 VCC (power), 17 GND (power), 18 CLK (in), 19 O8 (out), 20 O9 (out)

## CGS74B2529V
designator U?
500 ps 2 to 10 Minimum Skew Clock Driver; ComponentAvailability: Obsolete; Published: 15-Apr-2002; LatestRevisionDate: 13-Apr-2006; LatestRevisionNote: IPC-7351 Footprint Added.; DatasheetVersion: Sep-1995; PackageVersion: 2000; PackageReference: V28A; Publisher: Altium Limited; PackageDescription: 28-Pin Leaded Chip Carrier 1.27 mm Pitch; Code_IPC: PLCC-28; ComponentLink1Description: Manufacturer Link; ComponentLink1URL: http://www.national.com/; ComponentLink2Description: Discontinuation Notice; ComponentLink2URL: http://www.national.com/obs/obsolescence.txt
footprint V28A_N (Leaded Chip Carrier, 28-Leads, Body 11.5x11.5mm, Pitch 1.27mm, IPC Medium Density)
footprint V28A_L (Leaded Chip Carrier, 28-Leads, Body 11.5x11.5mm, Pitch 1.27mm, IPC High Density)
footprint V28A_M (Leaded Chip Carrier, 28-Leads, Body 11.5x11.5mm, Pitch 1.27mm, IPC Low Density)
3D model CGS74B2529-V28A (28-Pin Leaded Chip Carrier 1.27 mm Pitch)
pins: 1 O0 (out), 2 GND (power), 3 O1 (out), 4 O2 (out), 5 NC, 6 SEL (in), 7 GND (power), 8 VCC (power), 9 GND (power), 10 CLK1 (in), 11 NC, 12 O3 (out), 13 O4 (out), 14 GND (power), 15 O5 (out), 16 VCC (power), 17 O6 (out), 18 O7 (out), 19 NC, 20 NC, 21 GND (power), 22 VCC (power), 23 VCC (power), 24 GND (power), 25 CLK0 (in), 26 O8 (out), 27 O9 (out), 28 VCC (power)

## CGS74B2529WM
designator U?
500 ps 2 to 10 Minimum Skew Clock Driver; ComponentAvailability: Obsolete; Published: 15-Apr-2002; LatestRevisionDate: 13-Apr-2006; LatestRevisionNote: IPC-7351 Footprint Added.; DatasheetVersion: Sep-1995; PackageVersion: 2000; PackageReference: M20B; Publisher: Altium Limited; PackageDescription: 20-Pin Small Outline Integrated Circuit 1.27 mm Pitch; Code_JEDEC: MS-013-AC; Code_IPC: SOIC127P1030-20; ComponentLink1Description: Manufacturer Link; ComponentLink1URL: http://www.national.com/; ComponentLink2Description: Discontinuation Notice; ComponentLink2URL: http://www.national.com/obs/obsolescence.txt
footprint M20B_N (SOIC, 20-Leads, Body 12.8x7.5mm, Pitch 1.27mm, IPC Medium Density)
footprint M20B_L (SOIC, 20-Leads, Body 12.8x7.5mm, Pitch 1.27mm, IPC High Density)
footprint M20B_M (SOIC, 20-Leads, Body 12.8x7.5mm, Pitch 1.27mm, IPC Low Density)
3D model M20B (20-Pin Small Outline Integrated Circuit 1.27 mm Pitch)
pins: 1 O0 (out), 2 O1 (out), 3 O2 (out), 4 SEL (in), 5 GND (power), 6 VCC (power), 7 GND (power), 8 CLK1 (in), 9 O3 (out), 10 O4 (out), 11 O5 (out), 12 O6 (out), 13 O7 (out), 14 GND (power), 15 VCC (power), 16 VCC (power), 17 GND (power), 18 CLK0 (in), 19 O8 (out), 20 O9 (out)

## CGS74C2525M
designator U?
1-to-8 Minimum Skew Clock Driver; Published: 15-Apr-2002; LatestRevisionDate: 13-Apr-2006; LatestRevisionNote: IPC-7351 Footprint Added.; DatasheetVersion: Sep-1995; PackageVersion: 2000; PackageReference: M14A; Publisher: Altium Limited; PackageDescription: 14-Pin Small Outline Integrated Circuit 1.27 mm Pitch; Code_IPC: SOIC127P600-14; ComponentLink1Description: Manufacturer Link; ComponentLink1URL: http://www.national.com/; ComponentLink2Description: Datasheet; ComponentLink2URL: http://www.national.com/ds.cgi/CG/CGS74C2525.pdf; ComponentLink3Description: URL Link1; ComponentLink3URL: http://www.national.com/pf/CG/CGS74C2525.html
footprint M14A_N (SOIC, 14-Leads, Body 8.6x3.9mm, Pitch 1.27mm, IPC Medium Density)
footprint M14A_L (SOIC, 14-Leads, Body 8.6x3.9mm, Pitch 1.27mm, IPC High Density)
footprint M14A_M (SOIC, 14-Leads, Body 8.6x3.9mm, Pitch 1.27mm, IPC Low Density)
3D model M14A (14-Pin Small Outline Integrated Circuit 1.27 mm Pitch)
pins: 1 O0 (out), 2 O2 (out), 3 NC, 4 GND (power), 5 VDD (power), 6 O4 (out), 7 O6 (out), 8 O7 (out), 9 O5 (out), 10 GND (power), 11 VDD (power), 12 CLK (in), 13 O3 (out), 14 O1 (out)

## CGS74C2525N
designator U?
1-to-8 Minimum Skew Clock Driver; ComponentAvailability: Obsolete; Published: 15-Apr-2002; LatestRevisionDate: 06-Jun-2005; LatestRevisionNote: Stylized 3D Model Added.; DatasheetVersion: Sep-1995; PackageVersion: 2000; PackageReference: N14A; Publisher: Altium Limited; PackageDescription: DIP; 14 Leads; Row Spacing 7.62 mm; Pitch 2.54 mm; ComponentLink1Description: Manufacturer Link; ComponentLink1URL: http://www.national.com/; ComponentLink2Description: Datasheet; ComponentLink2URL: http://www.national.com/ds.cgi/CG/CGS74C2525.pdf; ComponentLink3Description: Discontinuation Notice; ComponentLink3URL: http://www.national.com/obs/obsolescence.txt; ComponentLink4Description: URL Link1; ComponentLink4URL: http://www.national.com/pf/CG/CGS74C2525.html
footprint N14A (DIP; 14 Leads; Row Spacing 7.62 mm; Pitch 2.54 mm)
3D model N14A (DIP; 14 Leads; Row Spacing 7.62 mm; Pitch 2.54 mm)
pins: 1 O0 (out), 2 O2 (out), 3 NC, 4 GND (power), 5 VDD (power), 6 O4 (out), 7 O6 (out), 8 O7 (out), 9 O5 (out), 10 GND (power), 11 VDD (power), 12 CLK (in), 13 O3 (out), 14 O1 (out)

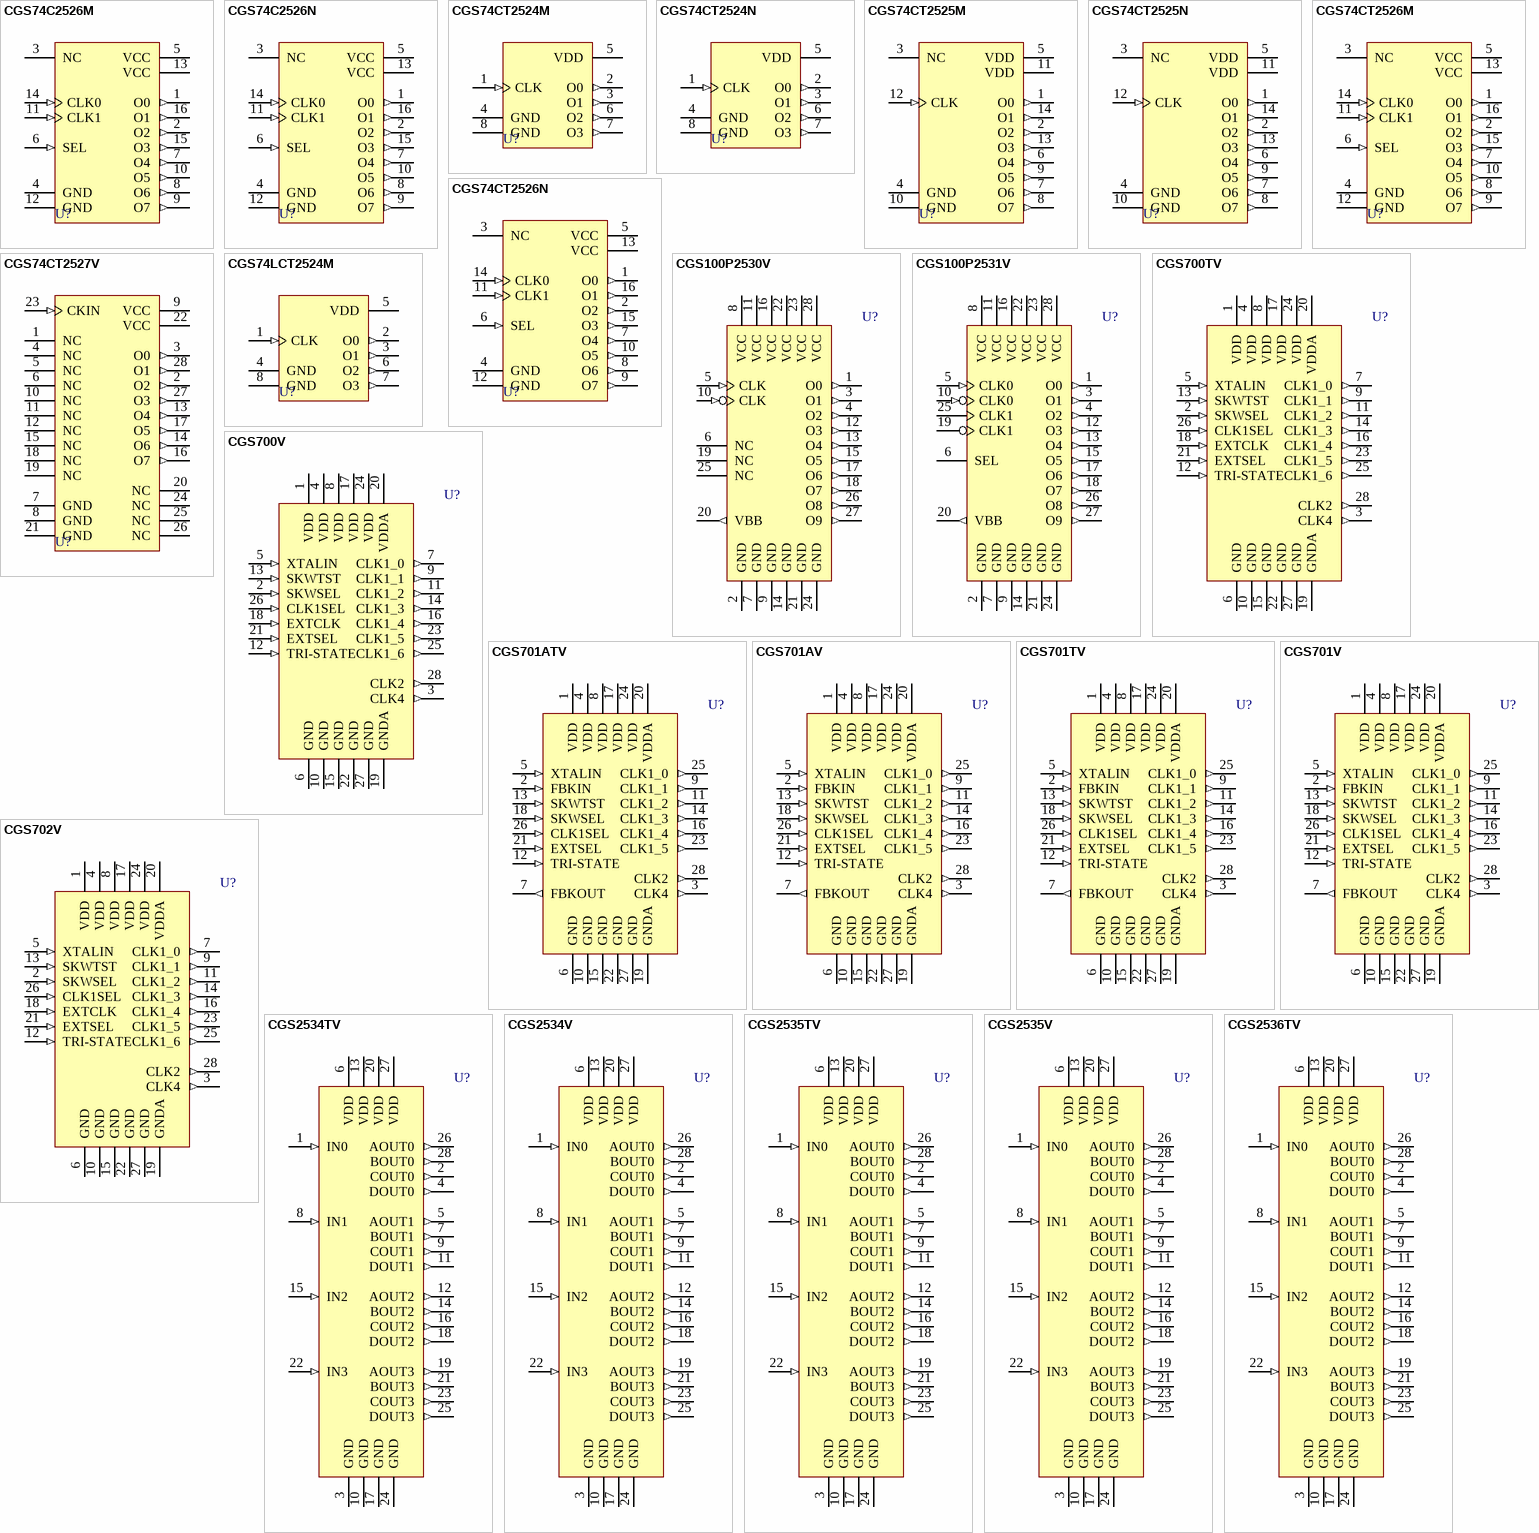
[diagram p1: symbols CGS74C2526M to CGS2536TV]

## CGS74C2526M
designator U?
1-to-8 Minimum Skew Clock Driver; ComponentAvailability: Obsolete; Published: 15-Apr-2002; LatestRevisionDate: 13-Apr-2006; LatestRevisionNote: IPC-7351 Footprint Added.; DatasheetVersion: Sep-1995; PackageVersion: 2000; PackageReference: M16A; Publisher: Altium Limited; PackageDescription: 16-Pin Small Outline Integrated Circuit 1.27 mm Pitch; Code_IPC: SOIC127P600-16; ComponentLink1Description: Manufacturer Link; ComponentLink1URL: http://www.national.com/; ComponentLink2Description: Datasheet; ComponentLink2URL: http://www.national.com/ds.cgi/CG/CGS74C2525.pdf; ComponentLink3Description: Discontinuation Notice; ComponentLink3URL: http://www.national.com/obs/obsolescence.txt; ComponentLink4Description: URL Link1; ComponentLink4URL: http://www.national.com/pf/CG/CGS74C2526.html
footprint M16A_N (SOIC, 16-Leads, Body 9.9x3.9mm, Pitch 1.27mm, IPC Medium Density)
footprint M16A_L (SOIC, 16-Leads, Body 9.9x3.9mm, Pitch 1.27mm, IPC High Density)
footprint M16A_M (SOIC, 16-Leads, Body 9.9x3.9mm, Pitch 1.27mm, IPC Low Density)
3D model M16A (16-Pin Small Outline Integrated Circuit 1.27 mm Pitch)
pins: 1 O0 (out), 2 O2 (out), 3 NC, 4 GND (power), 5 VCC (power), 6 SEL (in), 7 O4 (out), 8 O6 (out), 9 O7 (out), 10 O5 (out), 11 CLK1 (in), 12 GND (power), 13 VCC (power), 14 CLK0 (in), 15 O3 (out), 16 O1 (out)

## CGS74C2526N
designator U?
1-to-8 Minimum Skew Clock Driver; ComponentAvailability: Obsolete; Published: 15-Apr-2002; LatestRevisionDate: 06-Jun-2005; LatestRevisionNote: Stylized 3D Model Added.; DatasheetVersion: Sep-1995; PackageVersion: 2000; PackageReference: N16E; Publisher: Altium Limited; PackageDescription: DIP; 16 Leads; Row Spacing 7.62 mm; Pitch 2.54 mm; ComponentLink1Description: Manufacturer Link; ComponentLink1URL: http://www.national.com/; ComponentLink2Description: Datasheet; ComponentLink2URL: http://www.national.com/ds.cgi/CG/CGS74C2525.pdf; ComponentLink3Description: Discontinuation Notice; ComponentLink3URL: http://www.national.com/obs/obsolescence.txt; ComponentLink4Description: URL Link1; ComponentLink4URL: http://www.national.com/pf/CG/CGS74C2526.html
footprint N16E (DIP; 16 Leads; Row Spacing 7.62 mm; Pitch 2.54 mm)
3D model N16E (DIP; 16 Leads; Row Spacing 7.62 mm; Pitch 2.54 mm)
pins: 1 O0 (out), 2 O2 (out), 3 NC, 4 GND (power), 5 VCC (power), 6 SEL (in), 7 O4 (out), 8 O6 (out), 9 O7 (out), 10 O5 (out), 11 CLK1 (in), 12 GND (power), 13 VCC (power), 14 CLK0 (in), 15 O3 (out), 16 O1 (out)

## CGS74CT2524M
designator U?
1 to 4 Minimum Skew (300 ps) Clock Driver; Published: 15-Apr-2002; LatestRevisionDate: 13-Apr-2006; LatestRevisionNote: IPC-7351 Footprint Added.; DatasheetVersion: Sep-1995; PackageVersion: Sep-1997; PackageReference: M08A; Publisher: Altium Limited; PackageDescription: 8-Pin Small Outline Integrated Circuit 1.27 mm Pitch; Code_JEDEC: MS-012-AA; Code_IPC: SOIC127P600-8; ComponentLink1Description: Manufacturer Link; ComponentLink1URL: http://www.national.com/; ComponentLink2Description: Datasheet; ComponentLink2URL: http://www.national.com/ds.cgi/CG/CGS74CT2524.pdf; ComponentLink3Description: URL Link1; ComponentLink3URL: http://www.national.com/pf/CG/CGS74CT2524.html
footprint M08A_N (SOIC, 8-Leads, Body 4.9x3.9mm, Pitch 1.27mm, IPC Medium Density)
footprint M08A_L (SOIC, 8-Leads, Body 4.9x3.9mm, Pitch 1.27mm, IPC High Density)
footprint M08A_M (SOIC, 8-Leads, Body 4.9x3.9mm, Pitch 1.27mm, IPC Low Density)
3D model M08A (8-Pin Small Outline Integrated Circuit 1.27 mm Pitch)
pins: 1 CLK (in), 2 O0 (out), 3 O1 (out), 4 GND (power), 5 VDD (power), 6 O2 (out), 7 O3 (out), 8 GND (power)

## CGS74CT2524N
designator U?
1 to 4 Minimum Skew (300 ps) Clock Driver; Published: 15-Apr-2002; LatestRevisionDate: 06-Jun-2005; LatestRevisionNote: Stylized 3D Model Added.; DatasheetVersion: Sep-1994; PackageVersion: Sep-1997; PackageReference: N08E; Publisher: Altium Limited; PackageDescription: DIP; 8 Leads; Row Spacing 7.62 mm; Pitch 2.54 mm; ComponentLink1Description: Manufacturer Link; ComponentLink1URL: http://www.national.com/
footprint N08E (DIP; 8 Leads; Row Spacing 7.62 mm; Pitch 2.54 mm)
3D model J08A (DIP; 8 Leads; Row Spacing 7.62 mm; Pitch 2.54 mm)
pins: 1 CLK (in), 2 O0 (out), 3 O1 (out), 4 GND (power), 5 VDD (power), 6 O2 (out), 7 O3 (out), 8 GND (power)

## CGS74CT2525M
designator U?
1-to-8 Minimum Skew Clock Driver; Published: 15-Apr-2002; LatestRevisionDate: 13-Apr-2006; LatestRevisionNote: IPC-7351 Footprint Added.; DatasheetVersion: Sep-1995; PackageVersion: 2000; PackageReference: M14A; Publisher: Altium Limited; PackageDescription: 14-Pin Small Outline Integrated Circuit 1.27 mm Pitch; Code_IPC: SOIC127P600-14; ComponentLink1Description: Manufacturer Link; ComponentLink1URL: http://www.national.com/; ComponentLink2Description: Datasheet; ComponentLink2URL: http://www.national.com/ds.cgi/CG/CGS74C2525.pdf; ComponentLink3Description: URL Link1; ComponentLink3URL: http://www.national.com/pf/CG/CGS74CT2525.html
footprint M14A_N (SOIC, 14-Leads, Body 8.6x3.9mm, Pitch 1.27mm, IPC Medium Density)
footprint M14A_L (SOIC, 14-Leads, Body 8.6x3.9mm, Pitch 1.27mm, IPC High Density)
footprint M14A_M (SOIC, 14-Leads, Body 8.6x3.9mm, Pitch 1.27mm, IPC Low Density)
3D model M14A (14-Pin Small Outline Integrated Circuit 1.27 mm Pitch)
pins: 1 O0 (out), 2 O2 (out), 3 NC, 4 GND (power), 5 VDD (power), 6 O4 (out), 7 O6 (out), 8 O7 (out), 9 O5 (out), 10 GND (power), 11 VDD (power), 12 CLK (in), 13 O3 (out), 14 O1 (out)

## CGS74CT2525N
designator U?
1-to-8 Minimum Skew Clock Driver; Published: 15-Apr-2002; LatestRevisionDate: 06-Jun-2005; LatestRevisionNote: Stylized 3D Model Added.; DatasheetVersion: Sep-1995; PackageVersion: 2000; PackageReference: N14A; Publisher: Altium Limited; PackageDescription: DIP; 14 Leads; Row Spacing 7.62 mm; Pitch 2.54 mm; ComponentLink1Description: Manufacturer Link; ComponentLink1URL: http://www.national.com/; ComponentLink2Description: Datasheet; ComponentLink2URL: http://www.national.com/ds.cgi/CG/CGS74C2525.pdf; ComponentLink3Description: URL Link1; ComponentLink3URL: http://www.national.com/pf/CG/CGS74CT2525.html
footprint N14A (DIP; 14 Leads; Row Spacing 7.62 mm; Pitch 2.54 mm)
3D model N14A (DIP; 14 Leads; Row Spacing 7.62 mm; Pitch 2.54 mm)
pins: 1 O0 (out), 2 O2 (out), 3 NC, 4 GND (power), 5 VDD (power), 6 O4 (out), 7 O6 (out), 8 O7 (out), 9 O5 (out), 10 GND (power), 11 VDD (power), 12 CLK (in), 13 O3 (out), 14 O1 (out)

## CGS74CT2526M
designator U?
1-to-8 Minimum Skew Clock Driver; ComponentAvailability: Obsolete; Published: 15-Apr-2002; LatestRevisionDate: 13-Apr-2006; LatestRevisionNote: IPC-7351 Footprint Added.; DatasheetVersion: Sep-1995; PackageVersion: 2000; PackageReference: M16A; Publisher: Altium Limited; PackageDescription: 16-Pin Small Outline Integrated Circuit 1.27 mm Pitch; Code_IPC: SOIC127P600-16; ComponentLink1Description: Manufacturer Link; ComponentLink1URL: http://www.national.com/; ComponentLink2Description: Datasheet; ComponentLink2URL: http://www.national.com/ds.cgi/CG/CGS74C2525.pdf; ComponentLink3Description: Discontinuation Notice; ComponentLink3URL: http://www.national.com/obs/obsolescence.txt; ComponentLink4Description: URL Link1; ComponentLink4URL: http://www.national.com/pf/CG/CGS74CT2526.html
footprint M16A_N (SOIC, 16-Leads, Body 9.9x3.9mm, Pitch 1.27mm, IPC Medium Density)
footprint M16A_L (SOIC, 16-Leads, Body 9.9x3.9mm, Pitch 1.27mm, IPC High Density)
footprint M16A_M (SOIC, 16-Leads, Body 9.9x3.9mm, Pitch 1.27mm, IPC Low Density)
3D model M16A (16-Pin Small Outline Integrated Circuit 1.27 mm Pitch)
pins: 1 O0 (out), 2 O2 (out), 3 NC, 4 GND (power), 5 VCC (power), 6 SEL (in), 7 O4 (out), 8 O6 (out), 9 O7 (out), 10 O5 (out), 11 CLK1 (in), 12 GND (power), 13 VCC (power), 14 CLK0 (in), 15 O3 (out), 16 O1 (out)

## CGS74CT2526N
designator U?
1-to-8 Minimum Skew Clock Driver; ComponentAvailability: Obsolete; Published: 15-Apr-2002; LatestRevisionDate: 06-Jun-2005; LatestRevisionNote: Stylized 3D Model Added.; DatasheetVersion: Sep-1995; PackageVersion: 2000; PackageReference: N16E; Publisher: Altium Limited; PackageDescription: DIP; 16 Leads; Row Spacing 7.62 mm; Pitch 2.54 mm; ComponentLink1Description: Manufacturer Link; ComponentLink1URL: http://www.national.com/; ComponentLink2Description: Datasheet; ComponentLink2URL: http://www.national.com/ds.cgi/CG/CGS74C2525.pdf; ComponentLink3Description: Discontinuation Notice; ComponentLink3URL: http://www.national.com/obs/obsolescence.txt; ComponentLink4Description: URL Link1; ComponentLink4URL: http://www.national.com/pf/CG/CGS74CT2526.html
footprint N16E (DIP; 16 Leads; Row Spacing 7.62 mm; Pitch 2.54 mm)
3D model N16E (DIP; 16 Leads; Row Spacing 7.62 mm; Pitch 2.54 mm)
pins: 1 O0 (out), 2 O2 (out), 3 NC, 4 GND (power), 5 VCC (power), 6 SEL (in), 7 O4 (out), 8 O6 (out), 9 O7 (out), 10 O5 (out), 11 CLK1 (in), 12 GND (power), 13 VCC (power), 14 CLK0 (in), 15 O3 (out), 16 O1 (out)